# Altium footprint library custom.PcbLib: 4 footprints
Each footprint in its own frame and in the unit in brackets; x right, y up, seen from the top. Pads: shape width x height; smd on the part's side, far side on the other; paste and mask are expansions set on the pad; w line width, h text height; cw(c..) or ccw(c..) is an arc to the next point about the centre after c.
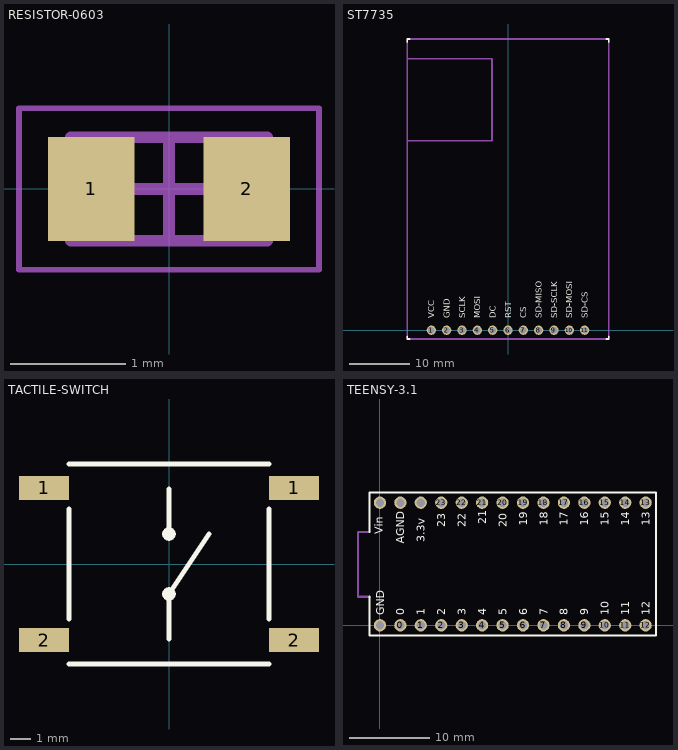
[diagram p0: the footprints below, top view; thin cyan lines are the x and y axes]

## RESISTOR-0603 [mm] "Chip resistor 0603 (1608)"
height 0.45
pads (2):
  rect 0.75x0.9 smd: 1(-0.675,0) 2(0.675,0)
Mechanical 13:
  lines w0.1: -0.85,-0.45 0.85,-0.45 0.85,0.45 -0.85,0.45 -0.85,-0.45
Mechanical 15:
  lines w0.05: -1.3,-0.7 1.3,-0.7 1.3,0.7 -1.3,0.7 -1.3,-0.7
  lines w0.1: -0.45,0 0.45,0 ; 0,-0.45 0,0.45
3D body: height 0.45, standoff 0, extent 0.45,-0.45 0.85,0.45
3D body: height 0.45, standoff 0, extent -0.85,-0.45 -0.45,0.45
3D body: height 0.45, standoff 0, extent -0.45,-0.45 0.45,0.45

## ST7735 [mm] "ST7737 128x160 LCD"
height 6.3
pads (11):
  round 1.54 hole 1.1: 1(-12.7,0) 2(-10.16,0) 3(-7.62,0) 4(-5.08,0) 5(-2.54,0) 6(0,0) 7(2.54,0) 8(5.08,0) 9(7.62,0) 10(10.16,0) 11(12.7,0)
Top Overlay:
  lines w0.254: -16.7,-1 -16.7,-1.45 -16.25,-1.45 ; -16.7,47.75 -16.7,48.25 -16.25,48.25 ; 16.25,-1.45 16.7,-1.45 16.7,-1 ; 16.25,48.25 16.7,48.25 16.7,47.75
  text "VCC" at -12.2,2 h1
  text "GND" at -9.66,2 h1
  text "SCLK" at -7.12,2 h1
  text "MOSI" at -4.58,2 h1
  text "DC" at -2.04,2 h1
  text "RST" at 0.5,2 h1
  text "CS" at 3.04,2 h1
  text "SD-MISO" at 5.58,2 h1
  text "SD-SCLK" at 8.12,2 h1
  text "SD-MOSI" at 10.66,2 h1
  text "SD-CS" at 13.2,2 h1
Mechanical 1:
  lines w0.254: -16.7,31.4 -2.65,31.4 -2.65,45 -16.7,45 ; -16.7,-1.45 -16.7,48.25 16.7,48.25 16.7,-1.45 -16.7,-1.45

## TACTILE-SWITCH [mm] "Large tactile switch"
height 6.4
pads (4):
  rect 2.5x1.2 smd: 1(-6.25,3.81) 1(6.25,3.81) 2(-6.25,-3.81) 2(6.25,-3.81)
Top Overlay:
  circle w0.254: c0,-1.5 r0.212
  circle w0.254: c0,1.5 r0.212
  lines w0.254: -5,-5 5,-5 ; -5,-2.75 -5,2.75 ; -5,5 5,5 ; 0,-3.75 0,-1.5 2,1.5 ; 0,1.5 0,3.75 ; 5,-2.75 5,2.75

## TEENSY-3.1 [mil] "Teensy 3.1 breakout"
height 122.05
pads (28):
  round 60 hole 40: 0(100,0) 1(200,0) 2(300,0) 3(400,0) 3.3v(200,600) 4(500,0) 5(600,0) 6(700,0) 7(800,0) 8(900,0) 9(1000,0) 10(1100,0) 11(1200,0) 12(1300,0) 13(1300,600) 14(1200,600) 15(1100,600) 16(1000,600) 17(900,600) 18(800,600) 19(700,600) 20(600,600) 21(500,600) 22(400,600) 23(300,600) AGND(100,600) GND(0,0) Vin(0,600)
Top Overlay:
  lines w10: -50,139.76 -50,-50 1350,-50 1350,650 -50,650 -50,456.69
  text "12" at 1320.39,49.02 h40
  text "13" at 1319.41,486.64 h40
  text "Vin" at 15,446.65 h40
  text "AGND" at 120,400 h40
  text "3.3v" at 220,406.66 h40
  text "23" at 320,479.97 h40
  text "22" at 420,479.97 h40
  text "21" at 520,493.3 h40
  text "20" at 620,479.97 h40
  text "19" at 720,486.64 h40
  text "18" at 820,486.64 h40
  text "17" at 920,486.64 h40
  text "16" at 1020,486.64 h40
  text "15" at 1120,486.64 h40
  text "14" at 1220,486.64 h40
  text "GND" at 20,50 h40
  text "0" at 120,50 h40
  text "1" at 220,50 h40
  text "2" at 320,50 h40
  text "3" at 420,50 h40
  text "4" at 520,50 h40
  text "5" at 620,50 h40
  text "6" at 720,50 h40
  text "7" at 820,50 h40
  text "8" at 920,50 h40
  text "9" at 1020,50 h40
  text "10" at 1120,50 h40
  text "11" at 1220,50 h40
Mechanical 13:
  lines w10: -50.2,139.76 -107.28,139.76 -107.28,456.69 -50.2,456.69